# Altium schematic symbol library TI Power Management DC-DC Controller (External Switch).SchLib: 349 symbols (part 26 of 26)
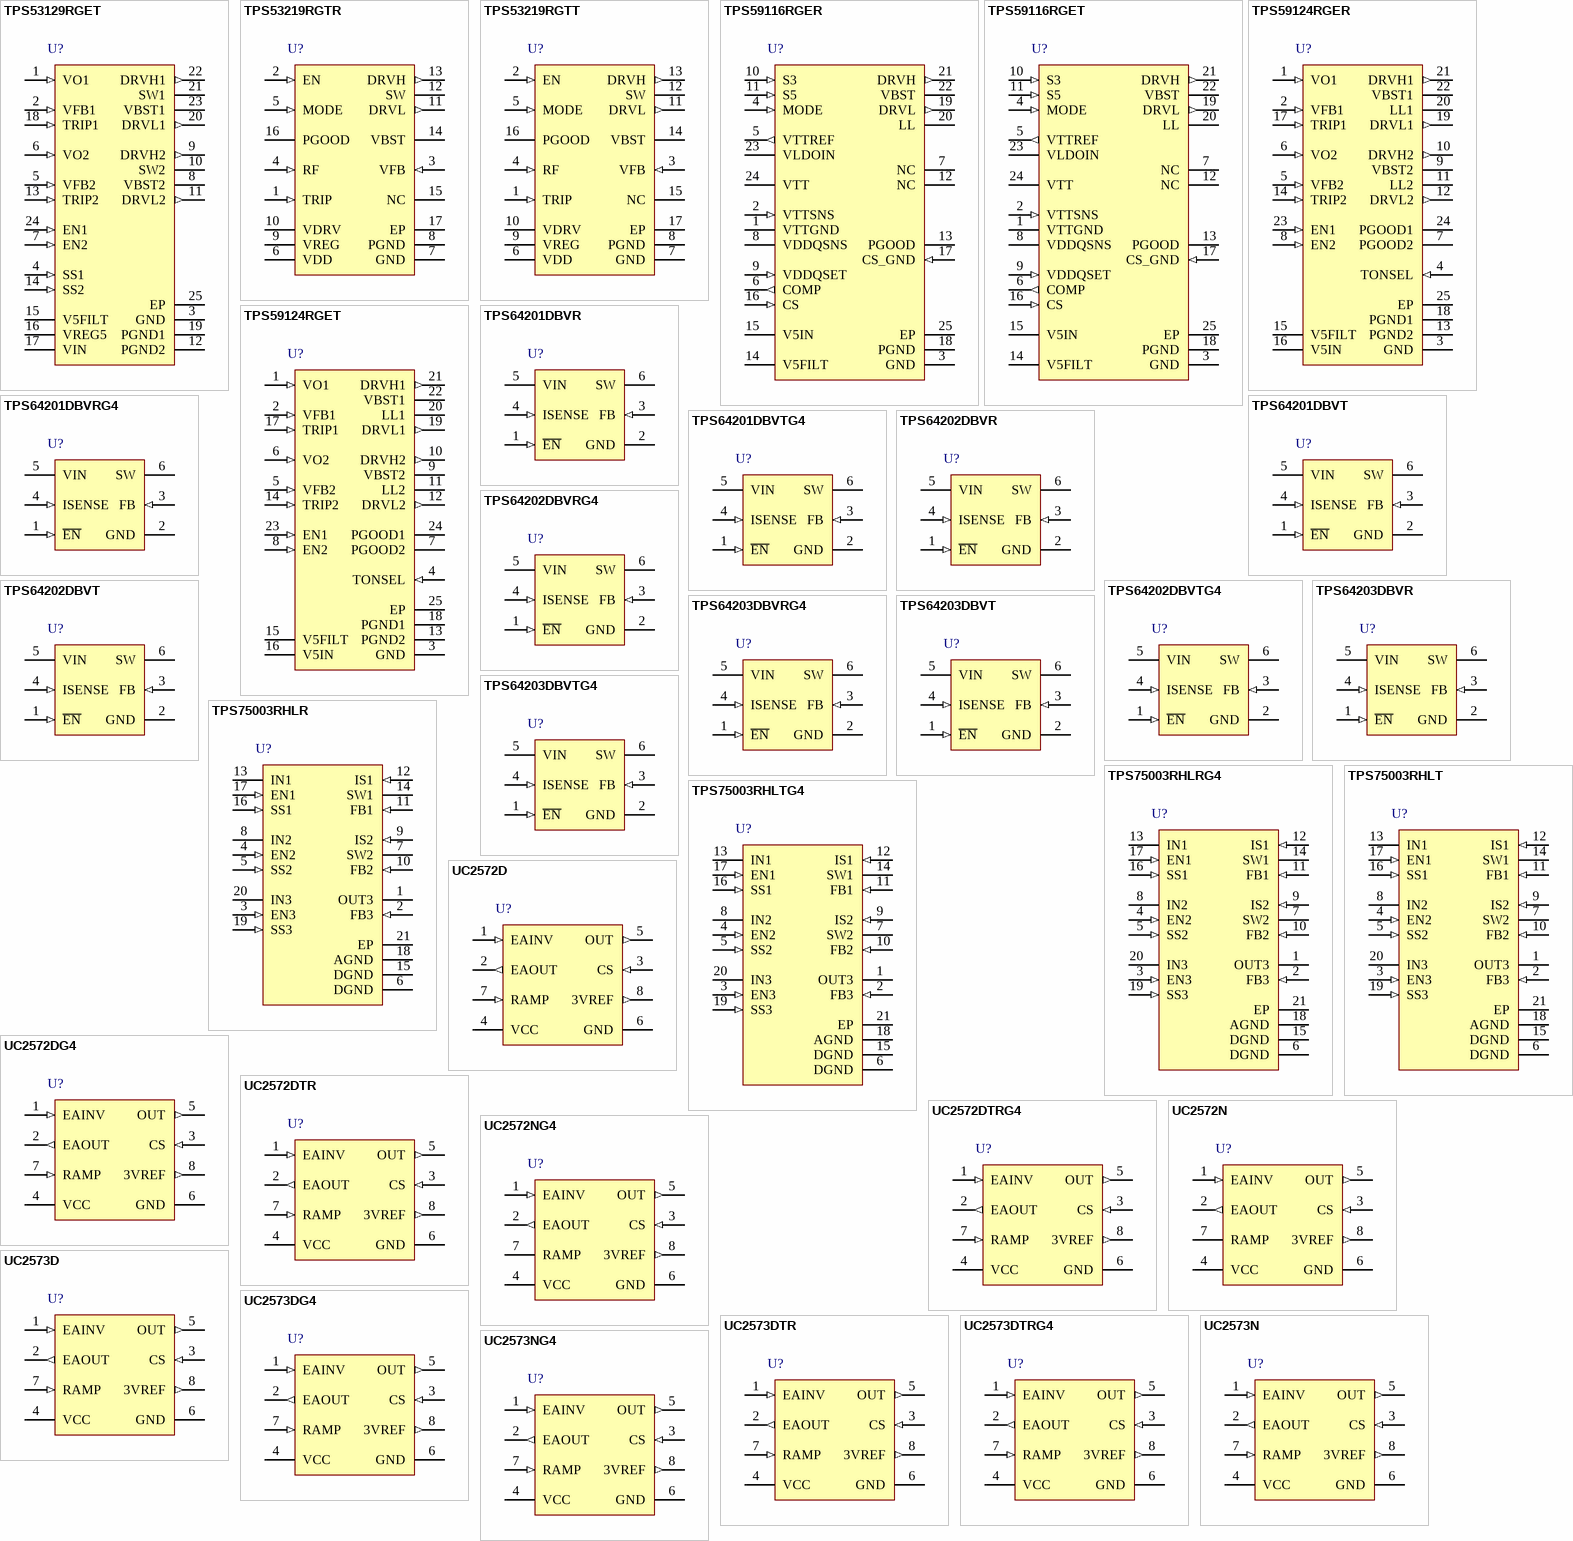
[diagram p39: symbols TPS53129RGET to UC2573NG4]

## UC2573NG4
designator U?
Buck Pulse Width Modulator Stepdown Voltage Regulator, 100 % Duty Cycle, 4.2 to 35 V, -40 to 85 degC, 8-pin PDIP (P), Green (RoHS & no Sb/Br); Manufacturer: Texas Instruments; PartNumber: UC2573NG4; Duty Cycle(Max)(%): 100; Iout(Max)(A): 0.5; Regulated Outputs(#): 1; SubFamily: Step-Down Controller; Switching Frequency(Max)(kHz): 300; Vin(Max)(V): 35; Vin(Min)(V): 4.2; Vout(Max)(V): 30; Vout(Min)(V): 1.5; DatasheetVersion: SLUS346A; PackageVersion: revE, Apr-2010; PackageReference: P8; PackageDescription: 8-Pin Plastic Dual-In-Line Package, Row Spacing 7.62 mm, Pitch 2.54 mm; Supplier 1: Digi-Key; Supplier Part Number 1: UC2573NG4-ND; Eco-Plan: Green (RoHS & no Sb/Br); Topology: Buck; Mounting Technology: Through Hole; Code_JEDEC: MS-001-BA; ComponentLink1Description: Datasheet; ComponentLink1URL: http://www.ti.com/general/docs/lit/getliterature.tsp?genericPartNumber=UC2573&fileType=pdf; ComponentLink2Description: Package Specification; ComponentLink2URL: http://www.ti.com/lit/ml/mpdi001b/mpdi001b.pdf
footprint P8 (DIP, 8-Leads, Row Spacing 7.62mm, Pitch 2.54mm, Body 9.6x6.4mm)
pins: 1 EAINV (in) "Inverting input to error  amplifier .VOUT sense feedback connected to this pin. The non-inverting input of the error amplifier is internally connected to:3vref/2 Volts.Conencting the EAINV pin to an external voltage greater (See Datasheet)", 2 EAOUT (out) "Output of error amplifier.Use EAOUT and EAINV for loop compensation components.", 3 CS (in) "Peak current limit sense pin. Senses the current across a current sense resistor placed between VCC and source of the PMOS Buck switch.OUT will be held high (PMOS buck switch off)if VCC-CS exceeds 0.4V.", 4 VCC (power) "input voltage supply to chip, Range is 4.75V to 30V .Bypass with a 1uF capacitor", 5 OUT (out) "Gate drive for external PMOS switch connected between VCC and the flyback inductor.OUT drives the gate of the PMOS switch between VCC and GND.", 6 GND (power) "Circuit Ground", 7 RAMP (in) "Oscillator and ramp for pulse width modulator. Frequency is set by a capacitor to GND by the equation Recommended operating frequency range is 10KHZ to 200KHZ", 8 3VREF (out) "Precision 3V refrence.Bypass with 100 nF capacitor."

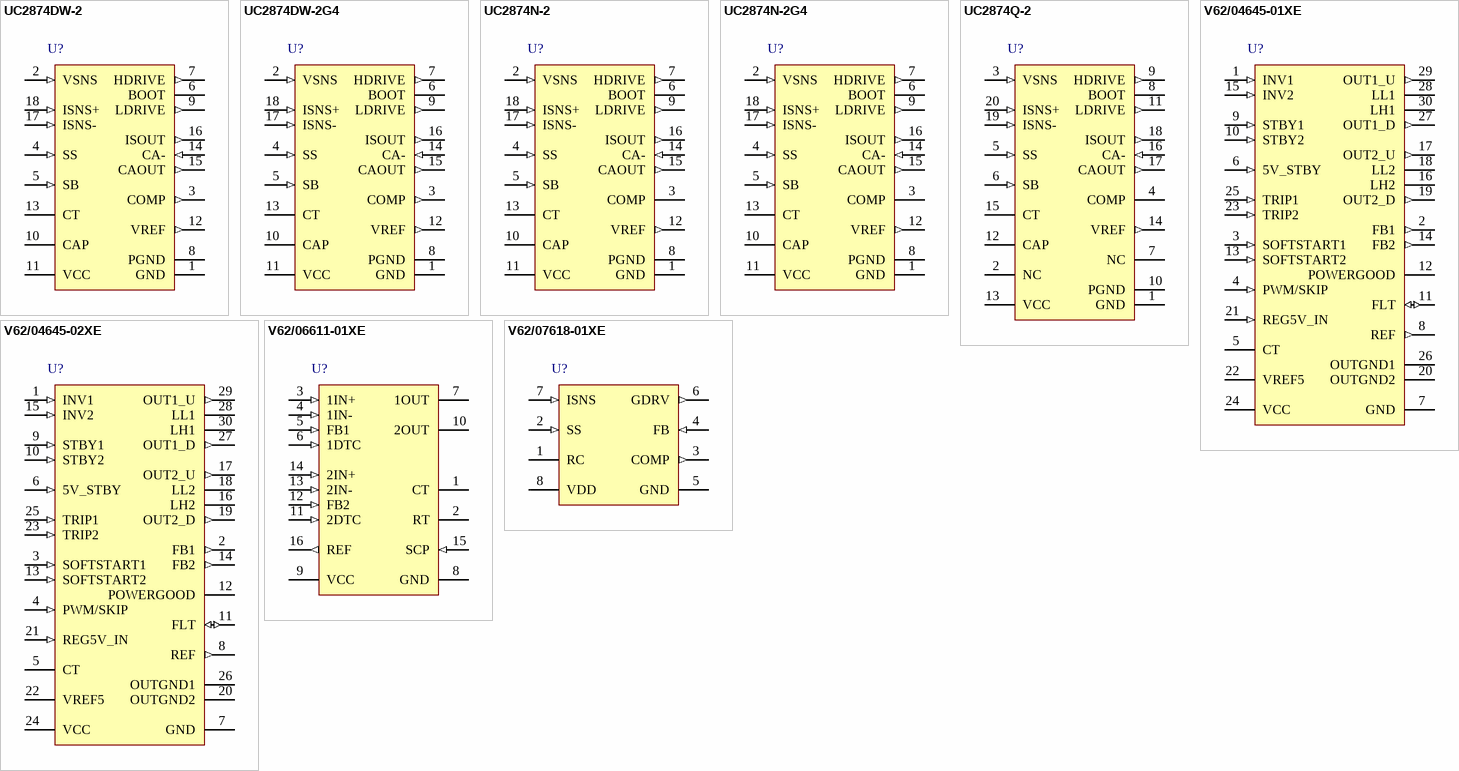
[diagram p14: symbols UC2874DW-2 to V62/07618-01XE]

## UC2874DW-2
designator U?
High Efficiency, Synchronous, Step-down (Buck) Controller, 92 % Duty Cycle, 10 to 36 V, -40 to 85 degC, 18-pin SOIC (DW), Green (RoHS & no Sb/Br); Manufacturer: Texas Instruments; PartNumber: UC2874DW-2; Duty Cycle(Max)(%): 92; Iout(Max)(A): 0.5; Regulated Outputs(#): 1; SubFamily: Step-Down Controller; Switching Frequency(Max)(kHz): 100; Synchronous Rectification: TRUE; Vin(Max)(V): 36; Vin(Min)(V): 10; Vout(Max)(V): 30; Vout(Min)(V): 2.5; DatasheetVersion: SLUS286A; PackageVersion: revG, Jan-2011; PackageReference: DW18; PackageDescription: 18-Pin Plastic Small Outline Integrated Circuit, 11.6 x 7.5 mm, Pitch 1.27 mm Pitch; Supplier 1: Digi-Key; Supplier Part Number 1: UC2874DW-2-ND; Eco-Plan: Green (RoHS & no Sb/Br); Topology: Buck; Mounting Technology: Surface Mount; Code_JEDEC: MS-013-AB; ComponentLink1Description: Datasheet; ComponentLink1URL: http://www.ti.com/general/docs/lit/getliterature.tsp?genericPartNumber=UC2874-2&fileType=pdf; ComponentLink2Description: Package Specification; ComponentLink2URL: http://www.ti.com/lit/ml/mpds172a/mpds172a.pdf
footprint DW18_N (SOIC, 18-Leads, Body 11.6x7.5mm, Pitch 1.27mm, IPC Medium Density)
footprint DW18_L (SOIC, 18-Leads, Body 11.6x7.5mm, Pitch 1.27mm, IPC High Density)
footprint DW18_M (SOIC, 18-Leads, Body 11.6x7.5mm, Pitch 1.27mm, IPC Low Density)
pins: 1 GND (power) "All voltages are measured with respect to this pin. All bypass capacitors and timing components except those listed under the PGND pin description should be connected to this pin. Component leads should be as short and (See Datasheet)", 2 VSNS (in) "This pin is the inverting input of the voltage amplifier and serves as the output voltage feedback point for the synchronous regulator. It senses the output voltage through a voltage divider which produces a nominal 2.0V.", 3 COMP (out) "This is the output of the voltage amplifier. It provides the current command signal to the current amplifier. The voltage is clamped to approximately 3.2V", 4 SS (in) "A capacitor from this pin to GND in conjunction with an internal 10mA current source provides a soft start function for the IC. The voltage level on SS clamps the output of the voltage amplifier through an internal buffer, (See Datasheet)", 5 SB (in) "The voltage on SB sets the output current level at which standby mode is initiated. A voltage level from 0V to 1V programs the threshold from 50% to 0% of full load current. Full load current corresponds to a 100mV (See Datasheet)", 6 BOOT (power) "This pin provides the high side rail for the HDRIVE output. An external capacitor (CBST) is connected between this pin and the drain of the external low side MOSFET. When the low side MOSFET is conducting Cbst is charged to (See Datasheet)", 7 HDRIVE (out) "The outputs of the PWM are totem pole MOSFET gate drivers on the HDRIVE and LDRIVE pins. The outputs can sink approximately 1A and source 500mA. This characteristic optimizes the switching transitions by providing a (See Datasheet)", 8 PGND (power) "This is the high current ground for the IC. The MOSFET driver transistors are referenced to this ground. For best performance an external star ground connection should be made between this pin, the source of the low side (See Datasheet)", 9 LDRIVE (out) "The outputs of the PWM are totem pole MOSFET gate drivers on the HDRIVE and LDRIVE pins. The outputs can sink approximately 1A and source 500mA. This characteristic optimizes the switching transitions by providing a (See Datasheet)", 10 CAP "A capacitor is normally connected between this pin and GND providing bypass for the internal 11V regulator. Charge is transferred from this capacitor to CBST via an external diode when the low side MOSFET is conducting. If (See Datasheet)", 11 VCC (power) "Positive supply rail for the IC. Bypass this pin to GND with a 1mF low ESL/ESR ceramic capacitor. The maximum voltage for VCC is 36V. The turn on voltage level on VCC is 4.5V with 100mV of hysteresis for the UC3874-1 and 10V (See Datasheet)", 12 VREF (out) "VREF is the output of the precision reference. The output is capable of supplying 20mA to peripheral circuitry and is internally short circuit current limited. VREF is disabled and low whenever VCC is below the UVLO (See Datasheet)", 13 CT "A capacitor from CT to GND sets the PWM oscillator frequency according to the following equation:F=1/14250*CT.Use a high quality ceramic capacitor with low ESL and ESR for best results. A minimum CT value of 220pF insures (See Datasheet)", 14 CA- (in) "This is the inverting input to the current amplifier. Connect a series resistor and capacitor between this pin and CAOUT to set the current loop compensation. An input resistor between this pin and ISOUT provides the (See Datasheet)", 15 CAOUT (out) "This is the output of the wide bandwidth current amplifier and one of the inputs to the PWM duty cycle comparator. The output signal generated by this amplifier commands the PWM to force the correct duty cycle to maintain (See Datasheet)", 16 ISOUT (out) "This is the output of the X10 instrumentation amplifier. The output voltage on this pin is level shifted 2V above GND, such that if a 100mV differential input is applied across ISNS+ and ISNS-, the output will be 3V.", 17 ISNS- (in) "This is the inverting input to the X10 instrumentation amplifier. The common mode input range for this pin extends from GND to VCC. A low value resistor in series with the output inductor is connected between this pin and (See Datasheet)", 18 ISNS+ (in) "This is the non-inverting input to the X10 instrumentation amplifier. The common mode input range for this pin extends from GND to VCC."

## UC2874DW-2G4
designator U?
High Efficiency, Synchronous, Step-down (Buck) Controller, 92 % Duty Cycle, 10 to 36 V, -40 to 85 degC, 18-pin SOIC (DW), Green (RoHS & no Sb/Br); Manufacturer: Texas Instruments; PartNumber: UC2874DW-2G4; Duty Cycle(Max)(%): 92; Iout(Max)(A): 0.5; Regulated Outputs(#): 1; SubFamily: Step-Down Controller; Switching Frequency(Max)(kHz): 100; Synchronous Rectification: TRUE; Vin(Max)(V): 36; Vin(Min)(V): 10; Vout(Max)(V): 30; Vout(Min)(V): 2.5; DatasheetVersion: SLUS286A; PackageVersion: revG, Jan-2011; PackageReference: DW18; PackageDescription: 18-Pin Plastic Small Outline Integrated Circuit, 11.6 x 7.5 mm, Pitch 1.27 mm Pitch; Supplier 1: Digi-Key; Supplier Part Number 1: UC2874DW-2G4-ND; Eco-Plan: Green (RoHS & no Sb/Br); Topology: Buck; Mounting Technology: Surface Mount; Code_JEDEC: MS-013-AB; ComponentLink1Description: Datasheet; ComponentLink1URL: http://www.ti.com/general/docs/lit/getliterature.tsp?genericPartNumber=UC2874-2&fileType=pdf; ComponentLink2Description: Package Specification; ComponentLink2URL: http://www.ti.com/lit/ml/mpds172a/mpds172a.pdf
footprint DW18_N (SOIC, 18-Leads, Body 11.6x7.5mm, Pitch 1.27mm, IPC Medium Density)
footprint DW18_L (SOIC, 18-Leads, Body 11.6x7.5mm, Pitch 1.27mm, IPC High Density)
footprint DW18_M (SOIC, 18-Leads, Body 11.6x7.5mm, Pitch 1.27mm, IPC Low Density)
pins: 1 GND (power) "All voltages are measured with respect to this pin. All bypass capacitors and timing components except those listed under the PGND pin description should be connected to this pin. Component leads should be as short and (See Datasheet)", 2 VSNS (in) "This pin is the inverting input of the voltage amplifier and serves as the output voltage feedback point for the synchronous regulator. It senses the output voltage through a voltage divider which produces a nominal 2.0V.", 3 COMP (out) "This is the output of the voltage amplifier. It provides the current command signal to the current amplifier. The voltage is clamped to approximately 3.2V", 4 SS (in) "A capacitor from this pin to GND in conjunction with an internal 10mA current source provides a soft start function for the IC. The voltage level on SS clamps the output of the voltage amplifier through an internal buffer, (See Datasheet)", 5 SB (in) "The voltage on SB sets the output current level at which standby mode is initiated. A voltage level from 0V to 1V programs the threshold from 50% to 0% of full load current. Full load current corresponds to a 100mV (See Datasheet)", 6 BOOT (power) "This pin provides the high side rail for the HDRIVE output. An external capacitor (CBST) is connected between this pin and the drain of the external low side MOSFET. When the low side MOSFET is conducting Cbst is charged to (See Datasheet)", 7 HDRIVE (out) "The outputs of the PWM are totem pole MOSFET gate drivers on the HDRIVE and LDRIVE pins. The outputs can sink approximately 1A and source 500mA. This characteristic optimizes the switching transitions by providing a (See Datasheet)", 8 PGND (power) "This is the high current ground for the IC. The MOSFET driver transistors are referenced to this ground. For best performance an external star ground connection should be made between this pin, the source of the low side (See Datasheet)", 9 LDRIVE (out) "The outputs of the PWM are totem pole MOSFET gate drivers on the HDRIVE and LDRIVE pins. The outputs can sink approximately 1A and source 500mA. This characteristic optimizes the switching transitions by providing a (See Datasheet)", 10 CAP "A capacitor is normally connected between this pin and GND providing bypass for the internal 11V regulator. Charge is transferred from this capacitor to CBST via an external diode when the low side MOSFET is conducting. If (See Datasheet)", 11 VCC (power) "Positive supply rail for the IC. Bypass this pin to GND with a 1mF low ESL/ESR ceramic capacitor. The maximum voltage for VCC is 36V. The turn on voltage level on VCC is 4.5V with 100mV of hysteresis for the UC3874-1 and 10V (See Datasheet)", 12 VREF (out) "VREF is the output of the precision reference. The output is capable of supplying 20mA to peripheral circuitry and is internally short circuit current limited. VREF is disabled and low whenever VCC is below the UVLO (See Datasheet)", 13 CT "A capacitor from CT to GND sets the PWM oscillator frequency according to the following equation:F=1/14250*CT.Use a high quality ceramic capacitor with low ESL and ESR for best results. A minimum CT value of 220pF insures (See Datasheet)", 14 CA- (in) "This is the inverting input to the current amplifier. Connect a series resistor and capacitor between this pin and CAOUT to set the current loop compensation. An input resistor between this pin and ISOUT provides the (See Datasheet)", 15 CAOUT (out) "This is the output of the wide bandwidth current amplifier and one of the inputs to the PWM duty cycle comparator. The output signal generated by this amplifier commands the PWM to force the correct duty cycle to maintain (See Datasheet)", 16 ISOUT (out) "This is the output of the X10 instrumentation amplifier. The output voltage on this pin is level shifted 2V above GND, such that if a 100mV differential input is applied across ISNS+ and ISNS-, the output will be 3V.", 17 ISNS- (in) "This is the inverting input to the X10 instrumentation amplifier. The common mode input range for this pin extends from GND to VCC. A low value resistor in series with the output inductor is connected between this pin and (See Datasheet)", 18 ISNS+ (in) "This is the non-inverting input to the X10 instrumentation amplifier. The common mode input range for this pin extends from GND to VCC."

## UC2874N-2
designator U?
High Efficiency, Synchronous, Step-down (Buck) Controller, 92 % Duty Cycle, 10 to 36 V, -40 to 85 degC, 18-pin PDIP (N), Green (RoHS & no Sb/Br); Manufacturer: Texas Instruments; PartNumber: UC2874N-2; Duty Cycle(Max)(%): 92; Iout(Max)(A): 0.5; Regulated Outputs(#): 1; SubFamily: Step-Down Controller; Switching Frequency(Max)(kHz): 100; Synchronous Rectification: TRUE; Vin(Max)(V): 36; Vin(Min)(V): 10; Vout(Max)(V): 30; Vout(Min)(V): 2.5; DatasheetVersion: SLUS286A; PackageVersion: revE, Dec-2002; PackageReference: N18; PackageDescription: 18-Pin Plastic Dual-In-Line Package, Row Spacing 7.62 mm, Pitch 2.54 mm; Supplier 1: Digi-Key; Supplier Part Number 1: UC2874N-2-ND; Eco-Plan: Green (RoHS & no Sb/Br); Topology: Buck; Mounting Technology: Through Hole; Code_JEDEC: MS-001-AC*; ComponentLink1Description: Datasheet; ComponentLink1URL: http://www.ti.com/general/docs/lit/getliterature.tsp?genericPartNumber=UC2874-2&fileType=pdf; ComponentLink2Description: Package Specification; ComponentLink2URL: http://www.ti.com/litv/pdf/mpds177g
footprint N18 (DIP, 18-Leads, Row Spacing 7.62mm, Pitch 2.54mm, Body 22.5x6.4mm)
pins: 1 GND (power) "All voltages are measured with respect to this pin. All bypass capacitors and timing components except those listed under the PGND pin description should be connected to this pin. Component leads should be as short and (See Datasheet)", 2 VSNS (in) "This pin is the inverting input of the voltage amplifier and serves as the output voltage feedback point for the synchronous regulator. It senses the output voltage through a voltage divider which produces a nominal 2.0V.", 3 COMP "This is the output of the voltage amplifier. It provides the current command signal to the current amplifier. The voltage is clamped to approximately 3.2V.", 4 SS (in) "A capacitor from this pin to GND in conjunction with an internal 10mA current source provides a soft start function for the IC. The voltage level on SS clamps the output of the voltage amplifier through an internal buffer, (See Datasheet)", 5 SB (in) "The voltage on SB sets the output current level at which standby mode is initiated. A voltage level from 0V to 1V programs the threshold from 50% to 0% of full load current. Full load current corresponds to a 100mV (See Datasheet)", 6 BOOT (power) "This pin provides the high side rail for the HDRIVE output. An external capacitor (CBST) is connected between this pin and the drain of the external low side MOSFET. When the low side MOSFET is conducting Cbst is charged to (See Datasheet)", 7 HDRIVE (out) "The outputs of the PWM are totem pole MOSFET gate drivers on the HDRIVE and LDRIVE pins. The outputs can sink approximately 1A and source 500mA. This characteristic optimizes the switching transitions by providing a (See Datasheet)", 8 PGND (power) "This is the high current ground for the IC. The MOSFET driver transistors are referenced to this ground. For best performance an external star ground connection should be made between this pin, the source of the low side (See Datasheet)", 9 LDRIVE (out) "The outputs of the PWM are totem pole MOSFET gate drivers on the HDRIVE and LDRIVE pins. The outputs can sink approximately 1A and source 500mA. This characteristic optimizes the switching transitions by providing a (See Datasheet)", 10 CAP "A capacitor is normally connected between this pin and GND providing bypass for the internal 11V regulator. Charge is transferred from this capacitor to CBST via an external diode when the low side MOSFET is conducting. If (See Datasheet)", 11 VCC (power) "Positive supply rail for the IC. Bypass this pin to GND with a 1uF low ESL/ESR ceramic capacitor. The maximum voltage for VCC is 36V. The turn on voltage level on VCC is 4.5V with 100mV of hysteresis for the UC3874-1 and 10V (See Datasheet)", 12 VREF (out) "VREF is the output of the precision reference. The output is capable of supplying 20mA to peripheral circuitry and is internally short circuit current limited. VREF is disabled and low whenever VCC is below the UVLO (See Datasheet)", 13 CT "A capacitor from CT to GND sets the PWM oscillator frequency. Use a high quality ceramic capacitor with low ESL and ESR for best results. A minimum CT value of 220pF insures good accuracy and less susceptibility to circuit (See Datasheet)", 14 CA- (in) "This is the inverting input to the current amplifier. Connect a series resistor and capacitor between this pin and CAOUT to set the current loop compensation. An input resistor between this pin and ISOUT provides the (See Datasheet)", 15 CAOUT (out) "This is the output of the wide bandwidth current amplifier and one of the inputs to the PWM duty cycle comparator. The output signal generated by this amplifier commands the PWM to force the correct duty cycle to maintain (See Datasheet)", 16 ISOUT (out) "This is the output of the X10 instrumentation amplifier. The output voltage on this pin is level shifted 2V above GND, such that if a 100mV differential input is applied across ISNS+ and ISNS-, the output will be 3V.", 17 ISNS- (in) "This is the inverting input to the X10 instrumentation amplifier. The common mode input range for this pin extends from GND to VCC. A low value resistor in series with the output inductor is connected between this pin and (See Datasheet)", 18 ISNS+ (in) "This is the non-inverting input to the X10 instrumentation amplifier. The common mode input range for this pin extends from GND to VCC."

## UC2874N-2G4
designator U?
High Efficiency, Synchronous, Step-down (Buck) Controller, 92 % Duty Cycle, 10 to 36 V, -40 to 85 degC, 18-pin PDIP (N), Green (RoHS & no Sb/Br); Manufacturer: Texas Instruments; PartNumber: UC2874N-2G4; Duty Cycle(Max)(%): 92; Iout(Max)(A): 0.5; Regulated Outputs(#): 1; SubFamily: Step-Down Controller; Switching Frequency(Max)(kHz): 100; Synchronous Rectification: TRUE; Vin(Max)(V): 36; Vin(Min)(V): 10; Vout(Max)(V): 30; Vout(Min)(V): 2.5; DatasheetVersion: SLUS286A; PackageVersion: revE, Dec-2002; PackageReference: N18; PackageDescription: 18-Pin Plastic Dual-In-Line Package, Row Spacing 7.62 mm, Pitch 2.54 mm; Supplier 1: Digi-Key; Supplier Part Number 1: UC2874N-2G4-ND; Eco-Plan: Green (RoHS & no Sb/Br); Topology: Buck; Mounting Technology: Through Hole; Code_JEDEC: MS-001-AC*; ComponentLink1Description: Datasheet; ComponentLink1URL: http://www.ti.com/general/docs/lit/getliterature.tsp?genericPartNumber=UC2874-2&fileType=pdf; ComponentLink2Description: Package Specification; ComponentLink2URL: http://www.ti.com/litv/pdf/mpds177g
footprint N18 (DIP, 18-Leads, Row Spacing 7.62mm, Pitch 2.54mm, Body 22.5x6.4mm)
pins: 1 GND (power) "All voltages are measured with respect to this pin. All bypass capacitors and timing components except those listed under the PGND pin description should be connected to this pin. Component leads should be as short and (See Datasheet)", 2 VSNS (in) "This pin is the inverting input of the voltage amplifier and serves as the output voltage feedback point for the synchronous regulator. It senses the output voltage through a voltage divider which produces a nominal 2.0V.", 3 COMP "This is the output of the voltage amplifier. It provides the current command signal to the current amplifier. The voltage is clamped to approximately 3.2V.", 4 SS (in) "A capacitor from this pin to GND in conjunction with an internal 10mA current source provides a soft start function for the IC. The voltage level on SS clamps the output of the voltage amplifier through an internal buffer, (See Datasheet)", 5 SB (in) "The voltage on SB sets the output current level at which standby mode is initiated. A voltage level from 0V to 1V programs the threshold from 50% to 0% of full load current. Full load current corresponds to a 100mV (See Datasheet)", 6 BOOT (power) "This pin provides the high side rail for the HDRIVE output. An external capacitor (CBST) is connected between this pin and the drain of the external low side MOSFET. When the low side MOSFET is conducting Cbst is charged to (See Datasheet)", 7 HDRIVE (out) "The outputs of the PWM are totem pole MOSFET gate drivers on the HDRIVE and LDRIVE pins. The outputs can sink approximately 1A and source 500mA. This characteristic optimizes the switching transitions by providing a (See Datasheet)", 8 PGND (power) "This is the high current ground for the IC. The MOSFET driver transistors are referenced to this ground. For best performance an external star ground connection should be made between this pin, the source of the low side (See Datasheet)", 9 LDRIVE (out) "The outputs of the PWM are totem pole MOSFET gate drivers on the HDRIVE and LDRIVE pins. The outputs can sink approximately 1A and source 500mA. This characteristic optimizes the switching transitions by providing a (See Datasheet)", 10 CAP "A capacitor is normally connected between this pin and GND providing bypass for the internal 11V regulator. Charge is transferred from this capacitor to CBST via an external diode when the low side MOSFET is conducting. If (See Datasheet)", 11 VCC (power) "Positive supply rail for the IC. Bypass this pin to GND with a 1uF low ESL/ESR ceramic capacitor. The maximum voltage for VCC is 36V. The turn on voltage level on VCC is 4.5V with 100mV of hysteresis for the UC3874-1 and 10V (See Datasheet)", 12 VREF (out) "VREF is the output of the precision reference. The output is capable of supplying 20mA to peripheral circuitry and is internally short circuit current limited. VREF is disabled and low whenever VCC is below the UVLO (See Datasheet)", 13 CT "A capacitor from CT to GND sets the PWM oscillator frequency. Use a high quality ceramic capacitor with low ESL and ESR for best results. A minimum CT value of 220pF insures good accuracy and less susceptibility to circuit (See Datasheet)", 14 CA- (in) "This is the inverting input to the current amplifier. Connect a series resistor and capacitor between this pin and CAOUT to set the current loop compensation. An input resistor between this pin and ISOUT provides the (See Datasheet)", 15 CAOUT (out) "This is the output of the wide bandwidth current amplifier and one of the inputs to the PWM duty cycle comparator. The output signal generated by this amplifier commands the PWM to force the correct duty cycle to maintain (See Datasheet)", 16 ISOUT (out) "This is the output of the X10 instrumentation amplifier. The output voltage on this pin is level shifted 2V above GND, such that if a 100mV differential input is applied across ISNS+ and ISNS-, the output will be 3V.", 17 ISNS- (in) "This is the inverting input to the X10 instrumentation amplifier. The common mode input range for this pin extends from GND to VCC. A low value resistor in series with the output inductor is connected between this pin and (See Datasheet)", 18 ISNS+ (in) "This is the non-inverting input to the X10 instrumentation amplifier. The common mode input range for this pin extends from GND to VCC."

## UC2874Q-2
designator U?
High Efficiency, Synchronous, Step-down (Buck) Controller, 92 % Duty Cycle, 10 to 36 V, -40 to 85 degC, 20-pin PLCC (FN); Manufacturer: Texas Instruments; PartNumber: UC2874Q-2; Duty Cycle(Max)(%): 92; Iout(Max)(A): 0.5; Regulated Outputs(#): 1; SubFamily: Step-Down Controller; Switching Frequency(Max)(kHz): 100; Synchronous Rectification: TRUE; Vin(Max)(V): 36; Vin(Min)(V): 10; Vout(Max)(V): 30; Vout(Min)(V): 2.5; DatasheetVersion: SLUS286A; PackageVersion: revB, Mar-1995; PackageReference: FN20; PackageDescription: 20-Pin Plastic Leaded Chip Carrier, 1.27 mm Pitch; Supplier 1: Mouser; Supplier Part Number 1: N/A; Topology: Buck; Mounting Technology: Surface Mount; Code_JEDEC: MS-018; ComponentLink1Description: Datasheet; ComponentLink1URL: http://www.ti.com/general/docs/lit/getliterature.tsp?genericPartNumber=UC2874-2&fileType=pdf; ComponentLink2Description: Package Specification; ComponentLink2URL: http://www.ti.com/litv/pdf/mplc004a
footprint FN20_N (Leaded Chip Carrier, 20-Leads, Body 9x9mm, Pitch 1.27mm, IPC Medium Density)
footprint FN20_L (Leaded Chip Carrier, 20-Leads, Body 9x9mm, Pitch 1.27mm, IPC High Density)
footprint FN20_M (Leaded Chip Carrier, 20-Leads, Body 9x9mm, Pitch 1.27mm, IPC Low Density)
pins: 1 GND (power) "All voltages are measured with respect to this pin. All bypass capacitors and timing components except those listed under the PGND pin description should be connected to this pin. Component leads should be as short and (See Datasheet)", 2 NC "No connection", 3 VSNS (in) "This pin is the inverting input of the voltage amplifier and serves as the output voltage feedback point for the synchronous regulator. It senses the output voltage through a voltage divider which produces a nominal 2.0V.", 4 COMP "This is the output of the voltage amplifier. It provides the current command signal to the current amplifier. The voltage is clamped to approximately 3.2V.", 5 SS (in) "A capacitor from this pin to GND in conjunction withan internal 10mA current source provides a soft startfunction for the IC. The voltage level on SS clamps theoutput of the voltage amplifier through an internal buffer,thus (See Datasheet)", 6 SB (in) "The voltage on SB sets the output current level at which standby mode is initiated. A voltage level from 0V to 1V programs the threshold from 50% to 0% of full load current. Full load current corresponds to a 100mV (See Datasheet)", 7 NC "No connection", 8 BOOT (power) "This pin provides the high side rail for the HDRIVE output. An external capacitor (CBST) is connected between this pin and the drain of the external low side MOSFET. When the low side MOSFET is conducting Cbst is charged to (See Datasheet)", 9 HDRIVE (out) "The outputs of the PWM are totem pole MOSFET gate drivers on the HDRIVE and LDRIVE pins. The outputs can sink approximately 1A and source 500mA. This characteristic optimizes the switching transitions by providing a (See Datasheet)", 10 PGND (power) "This is the high current ground for the IC. The MOSFET driver transistors are referenced to this ground. For best performance an external star ground connection should be made between this pin, the source of the low side (See Datasheet)", 11 LDRIVE (out) "The outputs of the PWM are totem pole MOSFET gate drivers on the HDRIVE and LDRIVE pins. The outputs can sink approximately 1A and source 500mA. This characteristic optimizes the switching transitions by providing a (See Datasheet)", 12 CAP "A capacitor is normally connected between this pin and GND providing bypass for the internal 11V regulator. Charge is transferred from this capacitor to CBST via an external diode when the low side MOSFET is conducting. If (See Datasheet)", 13 VCC (power) "Positive supply rail for the IC. Bypass this pin to GND with a 1mF low ESL/ESR ceramic capacitor. The maximum voltage for VCC is 36V. The turn on voltage level on VCC is 4.5V with 100mV of hysteresis for the UC3874-1 and 10V (See Datasheet)", 14 VREF (out) "VREF is the output of the precision reference. The output is capable of supplying 20mA to peripheral circuitry and is internally short circuit current limited. VREF is disabled and low whenever VCC is below the UVLO (See Datasheet)", 15 CT "A capacitor from CT to GND sets the PWM oscillator frequency according to the following equation: F=1/(CT x 14250) Use a high quality ceramic capacitor with low ESL and ESR for best results. A minimum CT value of 220pF insures (See Datasheet)", 16 CA- (in) "This is the inverting input to the current amplifier. Connect a series resistor and capacitor between this pin and CAOUT to set the current loop compensation. An input resistor between this pin and ISOUT provides the (See Datasheet)", 17 CAOUT (out) "This is the output of the wide bandwidth current amplifier and one of the inputs to the PWM duty cycle comparator. The output signal generated by this amplifier commands the PWM to force the correct duty cycle to maintain (See Datasheet)", 18 ISOUT (out) "This is the output of the X10 instrumentation amplifier. The output voltage on this pin is level shifted 2V above GND, such that if a 100mV differential input is applied across ISNS+ and ISNS-, the output will be 3V.", 19 ISNS- (in) "This is the inverting input to the X10 instrumentation amplifier. The common mode input range for this pin extends from GND to VCC. A low value resistor in series with the output inductor is connected between this pin and (See Datasheet)", 20 ISNS+ (in) "This is the non-inverting input to the X10 instrumentation amplifier. The common mode input range for this pin extends from GND to VCC."

## V62/04645-01XE
designator U?
Enhanced Product Dual Output Two-Phase Synchronous Buck DC / DC Controller, 100 % Duty Cycle, 4.5 to 28 V, -55 to 125 degC, 30-pin TSSOP (DBT), Green (RoHS & no Sb/Br); Manufacturer: Texas Instruments; PartNumber: V62/04645-01XE; Duty Cycle(Max)(%): 100; Iout(Max)(A): 1.5; Regulated Outputs(#): 2; SubFamily: Multiple-Output Switching Controller; Switching Frequency(Max)(kHz): 500; Vin(Max)(V): 28; Vin(Min)(V): 4.5; DatasheetVersion: SGLS224A; PackageVersion: Sep-2005; PackageReference: DBT30; PackageDescription: 30-Pin Thin Shrink Small Outline Package 0.5 mm Pitch; Supplier 1: Mouser; Supplier Part Number 1: 595-V62/04645-01XE; Eco-Plan: Green (RoHS & no Sb/Br); Topology: Buck; Mounting Technology: Surface Mount; Code_JEDEC: MO-153; ComponentLink1Description: Datasheet; ComponentLink1URL: http://www.ti.com/general/docs/lit/getliterature.tsp?genericPartNumber=TPS5120-EP&fileType=pdf; ComponentLink2Description: Package Specification; ComponentLink2URL: http://www.ti.com/litv/pdf/mpds019h
footprint DBT30_N (TSSOP, 30-Leads, Body 7.8x4.4mm, Pitch 0.5mm, IPC Medium Density)
footprint DBT30_L (TSSOP, 30-Leads, Body 7.8x4.4mm, Pitch 0.5mm, IPC High Density)
footprint DBT30_M (TSSOP, 30-Leads, Body 7.8x4.4mm, Pitch 0.5mm, IPC Low Density)
pins: 1 INV1 (in) "Inverting input of the CH1 error amplifier, skip comparator, and OVP1/UVP1 comparator", 2 FB1 (out) "Feedback output of CH1 error amplifier", 3 SOFTSTART1 (in) "External capacitor from SOFTSTART1 to GND for CH1 softstart control. Separate soft-start terminals make it possible to set the start-up time of each output independently", 4 PWM/SKIP (in) "PWM/SKIP mode select pin. The PWM/SKIP pin is used to change the output’s operating mode. If this terminal is lower than 0.5 V, it works in PWM mode. When a minimum voltage of 2 V is applied, the device operates in skip mode.(See Datasheet)", 5 CT "External capacitor from CT to GND for adjusting the triangle oscillator", 6 5V_STBY (in) "5-V linear regulator control", 7 GND (power) "Control GND", 8 REF (out) "0.85-V reference voltage output. The 0.85-V reference voltage is used for setting the output voltage and the voltage protection. This reference voltage is dropped down from a 5-V regulator", 9 STBY1 (in) "Standby control for CH1. SMPS1 can be switched into standby mode separately by grounding the STBY1 pin.", 10 STBY2 (in) "Standby control for CH2. SMPS2 can be switched into standby mode separately by grounding the STBY2 pin.", 11 FLT (io) "Fault latch timer pin. An external capacitor is connected between FLT and GND to set the FLT enable time up", 12 POWERGOOD (oc) "Power good open-drain output. When low, POWERGOOD reports an output fail condition. PG comparators monitor both SMPS’s over voltage and UVLO of VREF5. The threshold is +/-7%. When the SMPS starts up, the POWERGOOD pin’s (See Datasheet)", 13 SOFTSTART2 (in) "External capacitor from SOFTSTART2 to GND for CH2 softstart control. Separate soft-start terminals make it possible to set the start-up time of each output independently.", 14 FB2 (out) "Feedback output of CH2 error amplifier", 15 INV2 (in) "Inverting input of the CH2 error amplifier, skip comparator, and OVP2/UVP2 comparator", 16 LH2 (power) "Bootstrap capacitor connection for CH2 high-side gate drive", 17 OUT2_U (out) "Gate drive output for CH2 high-side switching FETs", 18 LL2 (power) "Bootstrap this pin low for CH2 high-side gate driving return and output current protection. Connect this pin to the junction of the high-side and low-side FETs for a floating drive configuration", 19 OUT2_D (out) "Gate drive output for CH2 low-side gate drive", 20 OUTGND2 (power) "Ground for CH2 FET drivers", 21 REG5V_IN (in) "External 5-V input", 22 VREF5 (power) "5-V internal regulator output", 23 TRIP2 (in) "External resistor connection for CH2 output current control", 24 VCC (power) "Supply voltage input", 25 TRIP1 (in) "External resistor connection for CH1 output current control", 26 OUTGND1 (power) "Ground for CH1 FET drivers", 27 OUT1_D (out) "Gate drive output for CH1 low-side gate drive", 28 LL1 (power) "Bootstrap this pin low for CH1 high-side gate driving return and output current protection. Connect this pin to the junction of the high-side and low-side FETs for a floating drive configuration", 29 OUT1_U (out) "Gate drive output for CH1 high-side switching FETs", 30 LH1 (power) "Bootstrap capacitor connection for CH1 high-side gate drive"

## V62/04645-02XE
designator U?
Enhanced Product Dual Output Two-Phase Synchronous Buck DC / DC Controller, 100 % Duty Cycle, 4.5 to 28 V, -55 to 125 degC, 30-pin TSSOP (DBT), Green (RoHS & no Sb/Br); Manufacturer: Texas Instruments; PartNumber: V62/04645-02XE; Duty Cycle(Max)(%): 100; Iout(Max)(A): 1.5; Regulated Outputs(#): 2; SubFamily: Multiple-Output Switching Controller; Switching Frequency(Max)(kHz): 500; Vin(Max)(V): 28; Vin(Min)(V): 4.5; DatasheetVersion: SGLS224A; PackageVersion: Sep-2005; PackageReference: DBT30; PackageDescription: 30-Pin Thin Shrink Small Outline Package 0.5 mm Pitch; Supplier 1: Newark; Supplier Part Number 1: 46M1595; Eco-Plan: Green (RoHS & no Sb/Br); Topology: Buck; Mounting Technology: Surface Mount; Code_JEDEC: MO-153; ComponentLink1Description: Datasheet; ComponentLink1URL: http://www.ti.com/general/docs/lit/getliterature.tsp?genericPartNumber=TPS5120-EP&fileType=pdf; ComponentLink2Description: Package Specification; ComponentLink2URL: http://www.ti.com/litv/pdf/mpds019h
footprint DBT30_N (TSSOP, 30-Leads, Body 7.8x4.4mm, Pitch 0.5mm, IPC Medium Density)
footprint DBT30_L (TSSOP, 30-Leads, Body 7.8x4.4mm, Pitch 0.5mm, IPC High Density)
footprint DBT30_M (TSSOP, 30-Leads, Body 7.8x4.4mm, Pitch 0.5mm, IPC Low Density)
pins: 1 INV1 (in) "Inverting input of the CH1 error amplifier, skip comparator, and OVP1/UVP1 comparator", 2 FB1 (out) "Feedback output of CH1 error amplifier", 3 SOFTSTART1 (in) "External capacitor from SOFTSTART1 to GND for CH1 softstart control. Separate soft-start terminals make it possible to set the start-up time of each output independently", 4 PWM/SKIP (in) "PWM/SKIP mode select pin. The PWM/SKIP pin is used to change the output’s operating mode. If this terminal is lower than 0.5 V, it works in PWM mode. When a minimum voltage of 2 V is applied, the device operates in skip mode.(See Datasheet)", 5 CT "External capacitor from CT to GND for adjusting the triangle oscillator", 6 5V_STBY (in) "5-V linear regulator control", 7 GND (power) "Control GND", 8 REF (out) "0.85-V reference voltage output. The 0.85-V reference voltage is used for setting the output voltage and the voltage protection. This reference voltage is dropped down from a 5-V regulator", 9 STBY1 (in) "Standby control for CH1. SMPS1 can be switched into standby mode separately by grounding the STBY1 pin.", 10 STBY2 (in) "Standby control for CH2. SMPS2 can be switched into standby mode separately by grounding the STBY2 pin.", 11 FLT (io) "Fault latch timer pin. An external capacitor is connected between FLT and GND to set the FLT enable time up", 12 POWERGOOD (oc) "Power good open-drain output. When low, POWERGOOD reports an output fail condition. PG comparators monitor both SMPS’s over voltage and UVLO of VREF5. The threshold is +/-7%. When the SMPS starts up, the POWERGOOD pin’s (See Datasheet)", 13 SOFTSTART2 (in) "External capacitor from SOFTSTART2 to GND for CH2 softstart control. Separate soft-start terminals make it possible to set the start-up time of each output independently.", 14 FB2 (out) "Feedback output of CH2 error amplifier", 15 INV2 (in) "Inverting input of the CH2 error amplifier, skip comparator, and OVP2/UVP2 comparator", 16 LH2 (power) "Bootstrap capacitor connection for CH2 high-side gate drive", 17 OUT2_U (out) "Gate drive output for CH2 high-side switching FETs", 18 LL2 (power) "Bootstrap this pin low for CH2 high-side gate driving return and output current protection. Connect this pin to the junction of the high-side and low-side FETs for a floating drive configuration", 19 OUT2_D (out) "Gate drive output for CH2 low-side gate drive", 20 OUTGND2 (power) "Ground for CH2 FET drivers", 21 REG5V_IN (in) "External 5-V input", 22 VREF5 (power) "5-V internal regulator output", 23 TRIP2 (in) "External resistor connection for CH2 output current control", 24 VCC (power) "Supply voltage input", 25 TRIP1 (in) "External resistor connection for CH1 output current control", 26 OUTGND1 (power) "Ground for CH1 FET drivers", 27 OUT1_D (out) "Gate drive output for CH1 low-side gate drive", 28 LL1 (power) "Bootstrap this pin low for CH1 high-side gate driving return and output current protection. Connect this pin to the junction of the high-side and low-side FETs for a floating drive configuration", 29 OUT1_U (out) "Gate drive output for CH1 high-side switching FETs", 30 LH1 (power) "Bootstrap capacitor connection for CH1 high-side gate drive"

## V62/06611-01XE
designator U?
Enhanced Product Dual Pulse-Width-Modulation Control Circuit, 100 % Duty Cycle, 3.6 to 50 V, -55 to 125 degC, 16-pin SOIC (D), Green (RoHS & no Sb/Br); Manufacturer: Texas Instruments; PartNumber: V62/06611-01XE; Duty Cycle(Max)(%): 100; Iout(Max)(A): 3; Regulated Outputs(#): 2; SubFamily: Multiple-Output Switching Controller; Switching Frequency(Max)(kHz): 500; Topology: Buck, Boost, Flyback; Vin(Max)(V): 50; Vin(Min)(V): 3.6; Vout(Min)(V): 1; DatasheetVersion: SLVS614; PackageVersion: revM, Jun-2011; PackageReference: D16; PackageDescription: 16-Pin Plastic Small Outline Integrated Circuit, 9.9 x 3.9 mm, Pitch 1.27 mm Pitch; Supplier 1: Newark; Supplier Part Number 1: 46M1802; Eco-Plan: Green (RoHS & no Sb/Br); Iout2(A): 3; Vout(Max)(V): 50; Vout2(Max)(V): 50; Vout2(Min)(V): 1; Mounting Technology: Surface Mount; Code_JEDEC: MS-012AC; ComponentLink1Description: Datasheet; ComponentLink1URL: http://www.ti.com/general/docs/lit/getliterature.tsp?genericPartNumber=TL1451A-EP&fileType=pdf; ComponentLink2Description: Package Specification; ComponentLink2URL: http://www.ti.com/litv/pdf/mpds178g
footprint D16_N (SOIC, 16-Leads, Body 9.9x3.9mm, Pitch 1.27mm, IPC Medium Density)
footprint D16_L (SOIC, 16-Leads, Body 9.9x3.9mm, Pitch 1.27mm, IPC High Density)
footprint D16_M (SOIC, 16-Leads, Body 9.9x3.9mm, Pitch 1.27mm, IPC Low Density)
pins: 1 CT, 2 RT, 3 1IN+ (in), 4 1IN- (in), 5 FB1 (in), 6 1DTC (in), 7 1OUT (oc), 8 GND (power), 9 VCC (power), 10 2OUT (oc), 11 2DTC (in), 12 FB2 (in), 13 2IN- (in), 14 2IN+ (in), 15 SCP (in), 16 REF (out)

## V62/07618-01XE
designator U?
Enhanced Product Wide-Input-Range Non-Synchronous Voltage-Mode Controller, 90 % Duty Cycle, 4.5 to 52 V, -55 to 125 degC, 8-pin SOIC (D), Green (RoHS & no Sb/Br); Manufacturer: Texas Instruments; PartNumber: V62/07618-01XE; Duty Cycle(Max)(%): 90; Iout(Max)(A): 3; Regulated Outputs(#): 1; SubFamily: Step-Down Controller; Topology: Buck; Vin(Max)(V): 52; Vin(Min)(V): 4.5; Vout(Max)(V): 46; Vout(Min)(V): 0.7; DatasheetVersion: SGLS371; PackageVersion: revM, Jun-2011; PackageReference: D8; PackageDescription: 8-Pin Plastic Small Outline Integrated Circuit, 4.9 x 3.9 mm, Pitch 1.27 mm Pitch; Supplier 1: Newark; Supplier Part Number 1: 46M1912; Eco-Plan: Green (RoHS & no Sb/Br); Mounting Technology: Surface Mount; Code_JEDEC: MS-012AA; ComponentLink1Description: Datasheet; ComponentLink1URL: http://www.ti.com/general/docs/lit/getliterature.tsp?genericPartNumber=TPS40200-EP&fileType=pdf; ComponentLink2Description: Package Specification; ComponentLink2URL: http://www.ti.com/litv/pdf/msoi002j
footprint D8_N (SOIC, 8-Leads, Body 4.9x3.9mm, Pitch 1.27mm, IPC Medium Density)
footprint D8_L (SOIC, 8-Leads, Body 4.9x3.9mm, Pitch 1.27mm, IPC High Density)
footprint D8_M (SOIC, 8-Leads, Body 4.9x3.9mm, Pitch 1.27mm, IPC Low Density)
pins: 1 RC "Switching frequency-setting RC network. Connect capacitor from RC pin to GND pin and resistor from VINpin to RC pin. The device may be synchronized to an external clock by connecting an open-drain output tothis pin and (See Datasheet)", 2 SS (in) "Soft-start programming pin. Connect capacitor from SS to GND to program soft-start time. Pulling this pin SS 2 I below 150 mV causes the output switching to stop, placing the device in a shutdown state. The pin also (See Datasheet)", 3 COMP (out) "Compensation. Error amplifier output. Connect control-loop compensation network from COMP to FB.", 4 FB (in) "Feedback. Error amplifier inverting input. Connect feedback resistor network center tap to this pin.", 5 GND (power) "Device ground", 6 GDRV (out) "Driver output for external P-channel MOSFET", 7 ISNS (in) "Current-sense comparator input , Connect a current sense resistor between ISNS and VDD in order to set desired overcurrent threshold.", 8 VDD (power) "System input voltage. Connect local bypass capacitor from VDD to GND."